# Altium schematic symbol library 原理图库.SCHLIB: 20 symbols
Pins are listed as number, name and electrical type; pins without a type are passive.

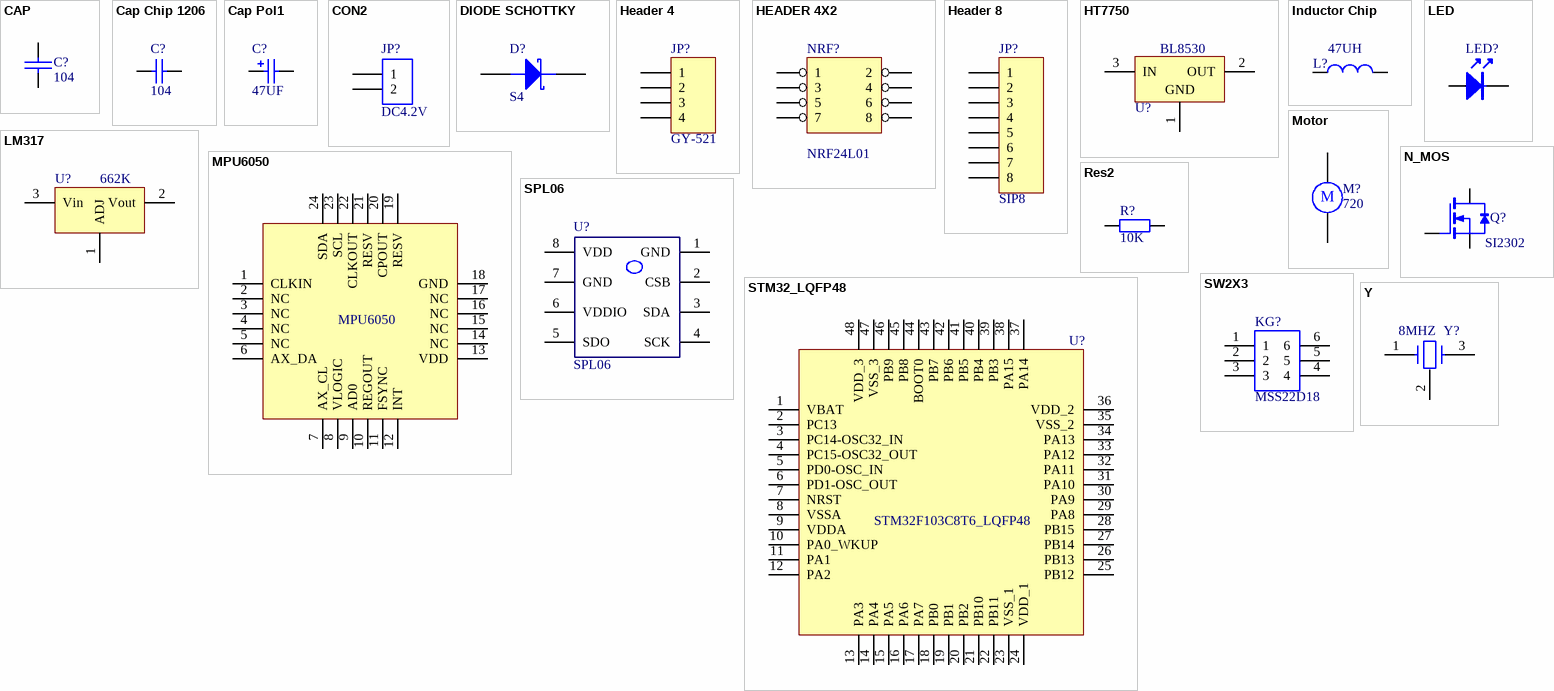
[diagram p0: symbols CAP to Y]

## CAP
designator C?, comment 104
Capacitor
footprint C_0603
pins: 1, 2

## Cap Chip 1206
designator C?, comment 104
Polarized Capacitor (Radial); Published: 8-Jun-2000; Revision: July-2002: Re-released for DXP Platform.; Publisher: Altium Limited; Value: 104
footprint C_0603
pins: 1, 2

## Cap Pol1
designator C?, comment 47UF
Polarized Capacitor (Radial); Value: 100pF; Published: 8-Jun-2000; LatestRevisionDate: 17-Jul-2002; LatestRevisionNote: Re-released for DXP Platform.; PackageReference: RB7.6-15; Publisher: Altium Limited; PackageDescription: Polarized Capacitor (Radial); 2 Leads
footprint C_1206
pins: 1, 2
1 alternate drawing of the same symbol

## CON2
designator JP?, comment DC4.2V
Connector
footprint SIP2
pins: 1, 2

## DIODE SCHOTTKY
designator D?, comment S4
Schottky Diode
footprint SOD-123
pins: 1 A, 2 K

## Header 4
designator JP?, comment GY-521
Header, 4-Pin; LatestRevisionDate: 17-Jul-2002; LatestRevisionNote: Re-released for DXP Platform.; Publisher: Altium Limited
footprint HDR1X4 (Connector; Header; 4 Position)
signal-integrity model Connector
pins: 1, 2, 3, 4

## HEADER 4X2
designator NRF?, comment NRF24L01
footprint 24L01
pins: 1, 2, 3, 4, 5, 6, 7, 8

## Header 8
designator JP?, comment SIP8
Header, 8-Pin; LatestRevisionDate: 17-Jul-2002; LatestRevisionNote: Re-released for DXP Platform.; Publisher: Altium Limited
footprint HDR1X8 (Connector; Header; 8 Position)
signal-integrity model Connector
pins: 1, 2, 3, 4, 5, 6, 7, 8

## HT7750
designator U?, comment BL8530
POSITIVE OUTPUT VOLTAGE
footprint SOT-89-3
pins: 1 GND (power), 2 OUT (power), 3 IN (power)

## Inductor Chip
designator L?  value 47UH  (hidden comment: Inductor Chip)
Inductor; Published: 8-Jun-2000; Revision: July-2002: Re-released for DXP Platform.; Publisher: Altium Limited
footprint L_CD43
pins: 1, 2

## LED
designator LED?
footprint LED0603
pins: 1, 2

## LM317
designator U?, comment 662K
3-Terminal Adjustable Positive Voltage Regulator
simulation model LM317 (SUBCKT)
footprint SOT23-PIN132
pins: 1 ADJ, 2 Vout, 3 Vin

## Motor
designator M?, comment 720
Motor, General Kind; Published: 24-Mar-1999; LatestRevisionDate: 17-Jul-2002; LatestRevisionNote: Re-released for DXP Platform.; PackageReference: RB5-10.5; Publisher: Altium Limited; PackageDescription: Capacitor (Radial); 2 Leads
footprint SIP2-A2.0
pins: 1, 2
text: M

## MPU6050
designator U?
footprint QFN24
pins: 1 CLKIN, 2 NC, 3 NC, 4 NC, 5 NC, 6 AX_DA, 7 AX_CL, 8 VLOGIC, 9 AD0, 10 REGOUT, 11 FSYNC, 12 INT, 13 VDD, 14 NC, 15 NC, 16 NC, 17 NC, 18 GND, 19 RESV, 20 CPOUT, 21 RESV, 22 CLKOUT, 23 SCL, 24 SDA

## N_MOS
designator Q?, comment SI2302
N-Channel MOSFET
footprint SOT23-123
pins: 1 G, 2 D, 3 S

## Res2
designator R?, comment 10K
Resistor; Published: 8-Jun-2000; LatestRevisionDate: 17-Jul-2002; LatestRevisionNote: Re-released for DXP Platform.; Publisher: Altium Limited; Value: 10K
footprint R0603
pins: 1, 2
2 alternate drawings of the same symbol

## SPL06
designator U?
footprint SPL06
pins: 1 GND (power), 2 CSB (power), 3 SDA (power), 4 SCK (power), 5 SDO (power), 6 VDDIO (power), 7 GND (power), 8 VDD (power)

## STM32_LQFP48
designator U?, comment STM32F103C8T6_LQFP48
footprint LQFP48_STM32
pins: 1 VBAT, 2 PC13, 3 PC14-OSC32_IN, 4 PC15-OSC32_OUT, 5 PD0-OSC_IN, 6 PD1-OSC_OUT, 7 NRST, 8 VSSA, 9 VDDA, 10 PA0_WKUP, 11 PA1, 12 PA2, 13 PA3, 14 PA4, 15 PA5, 16 PA6, 17 PA7, 18 PB0, 19 PB1, 20 PB2, 21 PB10, 22 PB11, 23 VSS_1, 24 VDD_1, 25 PB12, 26 PB13, 27 PB14, 28 PB15, 29 PA8, 30 PA9, 31 PA10, 32 PA11, 33 PA12, 34 PA13, 35 VSS_2, 36 VDD_2, 37 PA14, 38 PA15, 39 PB3, 40 PB4, 41 PB5, 42 PB6, 43 PB7, 44 BOOT0, 45 PB8, 46 PB9, 47 VSS_3, 48 VDD_3

## SW2X3
designator KG?, comment MSS22D18
footprint MSS22D18
footprint MSS22D18
pins: 1, 2, 3, 4, 5, 6

## Y
designator Y?, comment 8MHZ
footprint Y3213
pins: 1, 2, 3